# Altium footprint library VG扩展板.PcbLib: 24 footprints (part 2 of 2)
Each footprint in its own frame and in the unit in brackets; x right, y up, seen from the top. Pads: shape width x height; smd on the part's side, far side on the other; paste and mask are expansions set on the pad; w line width, h text height; cw(c..) or ccw(c..) is an arc to the next point about the centre after c.
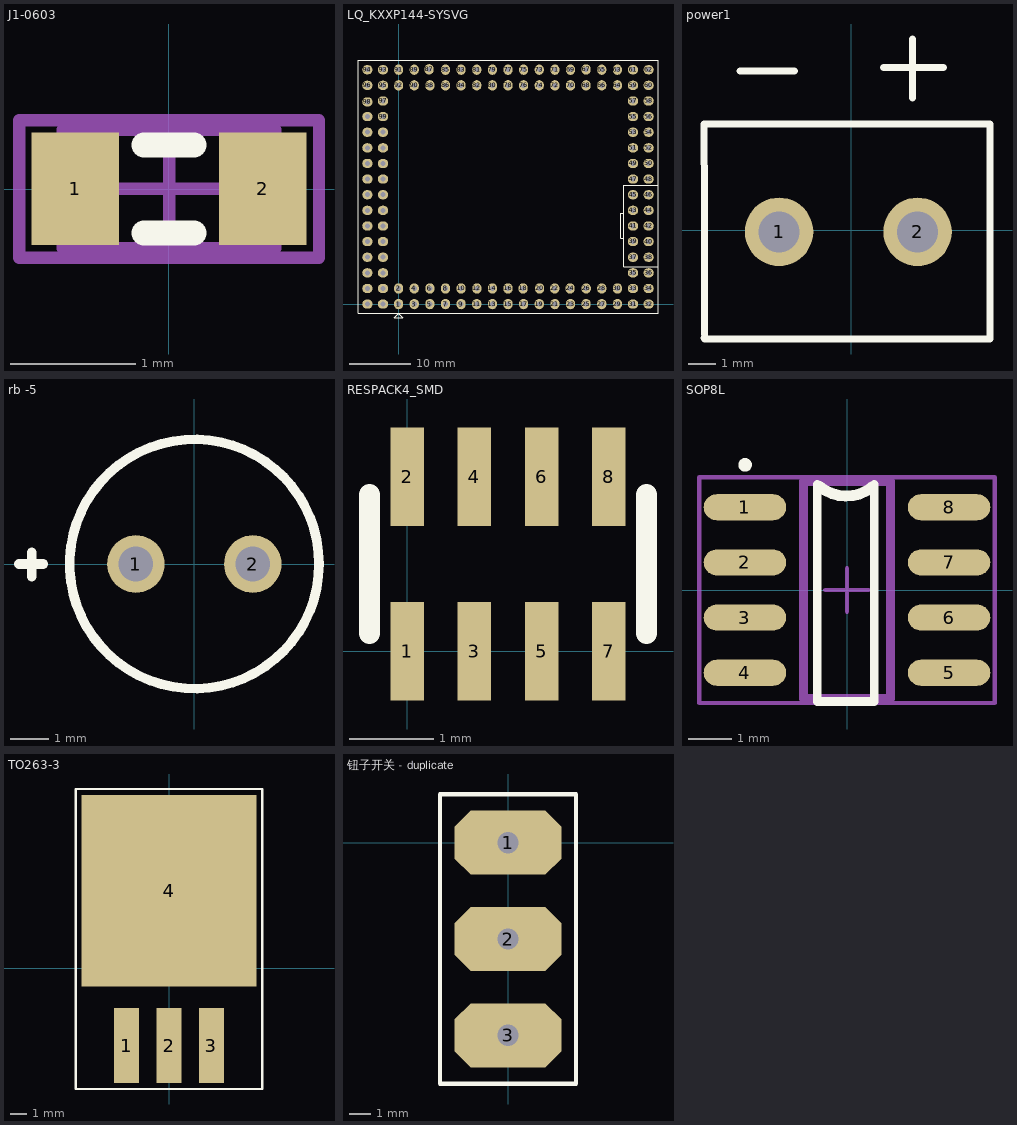
[diagram p1: the footprints below, top view; thin cyan lines are the x and y axes]

## J1-0603 [mm] "Chip Resistor, Body 1.6x0.8mm, IPC High Density"
height 0.9
pads (2):
  rect 0.7x0.9 smd: 1(-0.75,0) 2(0.75,0)
Top Overlay:
  lines w0.2: -0.2,-0.35 0.2,-0.35 ; -0.2,0.35 0.2,0.35
Mechanical 13:
  lines w0.1: -0.85,-0.475 -0.85,0.475 0.85,0.475 0.85,-0.475 -0.85,-0.475
Mechanical 15:
  lines w0.1: -0.475,0 0.475,0 ; 0,-0.475 0,0.475 ; -1.2,-0.55 -1.2,0.55 1.2,0.55 1.2,-0.55 -1.2,-0.55
3D body: height 0.9, standoff 0, extent -0.85,-0.475 0.85,0.475

## LQ_KXXP144-SYSVG [mil]
pads (124):
  oval 59x66 hole 32: 1(0,0) 2(0,100) 3(100,0) 4(100,100) 5(200,0) 6(200,100) 7(300,0) 8(300,100) 9(400,0) 10(400,100) 11(500,0) 12(500.79,100) 13(600,0) 14(600,100) 15(700,0) 16(700,100) 17(800,0) 18(796.85,100) 19(900,0) 20(902.36,100) 21(1000,0) 22(998.82,100) 23(1100,0) 24(1097.64,100) 25(1200,0) 26(1200.39,100) 27(1300,0) 28(1300,100) 29(1400,0) 30(1400.39,100) 63(1400,1500) 64(1400,1400) 65(1300,1500) 66(1300,1400) 67(1200,1501.97) 68(1200,1400) 69(1100,1500) 70(1100,1400) 71(1000,1500) 72(1000,1400) 73(900,1500) 74(900,1400) 75(800,1500) 76(800,1400) 77(700,1500) 78(700,1400) 79(600,1500) 80(600,1400) 81(500,1500) 82(500,1400) 83(400,1500) 84(400,1400) 85(300,1500) 86(300,1400) 87(194.88,1502.36) 88(200,1400) 89(100,1500) 90(100,1400) 91(0,1500) 92(0,1400)
  oval 66x59 hole 32: 31(1500,0) 32(1600,0) 33(1500,100) 34(1600,100) 35(1500,200) 36(1600,200) 37(1500,300) 38(1600,300) 39(1500,400.79) 40(1600,400) 41(1500,500) 42(1600,500.39) 43(1500,600) 44(1600,600) 45(1500,700) 46(1600,700) 47(1500,800) 48(1600,800) 49(1500,900) 50(1600,900) 51(1500,1000) 52(1600,1000) 53(1500,1100) 54(1600,1100) 55(1500,1200) 56(1600,1200) 57(1500,1300) 58(1600,1300) 59(1500,1400) 60(1600,1400) 61(1500,1500) 62(1600,1500) 93(-100,1500) 94(-200,1500) 95(-100,1400) 96(-200,1400) 97(-100,1300) 98(-200,1294.09) 99(-100,1200) 100(-200,1200) 101(-100,1100) 102(-200,1100) 103(-100,1000) 104(-200,1000) 105(-100,899.61) 106(-200,900.39) 107(-100,800) 108(-200,800) 109(-100,700) 110(-200,700) 111(-100,600) 112(-200,600) 113(-100,500) 114(-200,500) 115(-100,400) 116(-200,400) 117(-100,300) 118(-200,300) 119(-100,200) 120(-200,200) 121(-100,100) 122(-200,100) 123(-100,0) 124(-200,0)
Top Overlay:
  lines w5.91: 1440,420 1420,420 1420,580 1440,580 ; 1660,240 1440,240 1440,760 1660,760
  lines w7.87: -1.18,-59.06 25.98,-86.61 -28.35,-86.61 -0.79,-59.06 ; -260,-60 -260,1560 1660,1560 1660,-60 -260,-60

## power1 [mm]
pads (2):
  round 2.5 hole 1.5: 1(-2.642,-0.051) 2(2.413,-0.051)
Top Overlay:
  lines w0.254: -5.377,-3.93 -5.359,-3.962 5.055,-3.962 5.055,-0.368 5.055,3.886 -5.377,3.886 -5.377,3.614 -5.359,1.151 -5.359,0.712 ; -5.359,-3.802 -5.359,-0.051 -5.359,0.711 ; -4.064,5.817 -2.083,5.817 ; 1.168,5.944 3.353,5.944 ; 2.235,4.826 2.235,6.985 ; -5.359,0.711 -5.359,0.712

## rb -5 [mm]
pads (2):
  round 1.5 hole 0.9: 1(-1.524,0) 2(1.524,0)
Top Overlay:
  circle w0.25: c0,0 r3.25
  lines w0.254: -4.572,0 -3.937,0 ; -4.242,-0.33 -4.242,0.305

## RESPACK4_SMD [mm]
pads (8):
  rect 0.4x1.174 smd: 1(0,0) 2(0,2.074) 3(0.8,0) 4(0.8,2.074) 5(1.6,0) 6(1.6,2.074) 7(2.4,0) 8(2.4,2.074)
Top Overlay:
  lines w0.254: -0.45,0.212 -0.45,1.862 ; 2.85,0.212 2.85,1.862

## SOP8L [mm]
pads (8):
  oval 1.9x0.6 smd: 1(-2.35,1.905) 2(-2.35,0.635) 3(-2.35,-0.635) 4(-2.35,-1.905) 5(2.35,-1.905) 6(2.35,-0.635) 7(2.35,0.635) 8(2.35,1.905)
Top Overlay:
  circle w0.25: c-2.346,2.882 r0.03
  lines w0.2: -0.685,2.433 -0.685,-2.567 0.625,-2.567 0.625,2.433
  lines w0.254: -0.63,2.387 ccw(c-0.017,3.107) 0.576,2.37
Mechanical 2:
  lines w0.1: -0.5,0 0.5,0 ; 0,-0.5 0,0.5 ; -3.4,-2.6 3.4,-2.6 3.4,2.6 -3.4,2.6 -3.4,-2.6
  lines w0.2: -1,-2.5 1,-2.5 1,2.5 -1,2.5 -1,-2.5
3D body "User Library-sop-8-2.STEP": height 1.7, standoff 0, extent -2.989,-2.489 3.053,2.531

## TO263-3 [mm]
pads (4):
  rect 1.5x4.5 smd: 1(-2.54,-4.648) 2(0,-4.648) 3(2.54,-4.648)
  rect 10.5x11.5 smd: 4(0,4.648)
Top Overlay:
  lines w0.15: -5.6,-7.252 5.6,-7.252 5.6,10.748 -5.6,10.748 -5.6,-7.252

## 钮子开关 - duplicate [mm]
pads (3):
  oct 5x3 hole 1 square: 1(0,0) 2(0,-4.5) 3(0,-9)
Top Overlay:
  lines w0.2: -1.125,2.25 3.175,2.25 3.175,-11.25 -3.175,-11.25 -3.175,2.25 1.125,2.25